# EAGLE library part LCD1602 (library sunfounder-lcd)
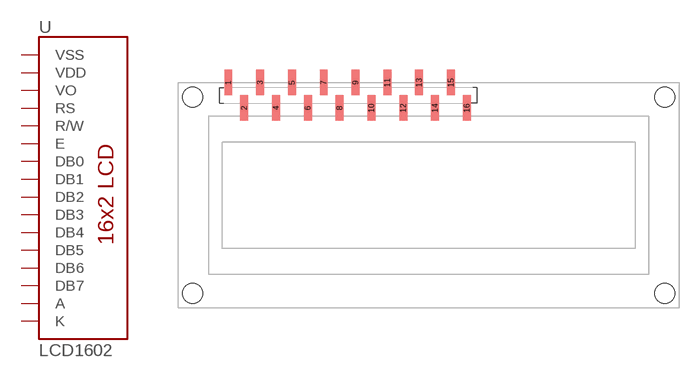
[diagram p0: symbol with the pads of LCD-1602; footprint LCD-1602]

Designator prefix -

## LCD1602SMD  [LCD-1602]
1  VSS  pwr
2  VDD  pwr
3  VO
4  RS  in
5  R/W  in
6  E  in
7  DB0
8  DB1
9  DB2
10  DB3
11  DB4
12  DB5
13  DB6
14  DB7
15  A  pwr
16  K  pwr

## Footprint LCD-1602 (pad centres in mm)
smd 1.27 x 4.064: 1 -32,18.032; 2 -29.46,13.968; 3 -26.92,18.032; 4 -24.38,13.968; 5 -21.84,18.032; 6 -19.3,13.968; 7 -16.76,18.032; 8 -14.22,13.968; 9 -11.68,18.032; 10 -9.14,13.968; 11 -6.6,18.032; 12 -4.06,13.968; 13 -1.52,18.032; 14 1.02,13.968; 15 3.56,18.032; 16 6.1,13.968
hole 3.2 at -37.7,15.7
hole 3.2 at 37.7,15.7
hole 3.2 at 37.7,-15.7
hole 3.2 at -37.7,-15.7